# EAGLE library part M07 (library dr-library)
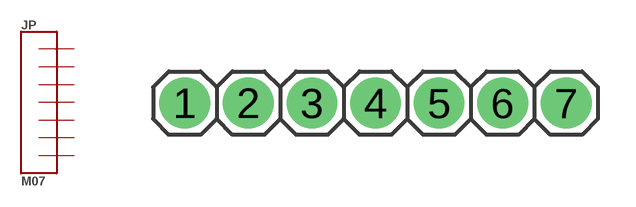
[diagram p15: symbol with the pads of 1X07; footprint 1X07]

Designator prefix JP

## M07  [1X07]
1  1
2  2
3  3
4  4
5  5
6  6
7  7

## Footprint 1X07 (pad centres in mm)
PIN HEADER
drill 1.016 pad 2.032: 1 -1.27,0; 2 1.27,0; 3 3.81,0; 4 6.35,0; 5 8.89,0; 6 11.43,0; 7 13.97,0